# Altium integrated library SRP1265A-470M.IntLib: 1 symbol
Pins are listed as number, name and electrical type; pins without a type are passive.

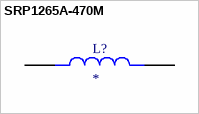
[diagram p0: symbol SRP1265A-470M]

## SRP1265A-470M
designator L?
Inductor,Shielded Power,AEC-Q200,47uH 20% SMT 1265 | Bourns SRP1265A-470M; SnapEDA_Link: https://www.snapeda.com/parts/SRP1265A-470M/Bourns/view-part/?ref=snap; Package: Nonstandard Bourns; Value: *; MF: Bourns; MP: SRP1265A-470M; Check_prices: https://www.snapeda.com/parts/SRP1265A-470M/Bourns/view-part/?ref=eda
footprint IND_SRP1265A-470M
pins: 1, 2